# Altium schematic symbol library STTH108A.SchLib: 1 symbol
Pins are listed as number, name and electrical type; pins without a type are passive.

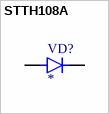
[diagram p0: symbol STTH108A]

## STTH108A
designator VD?
Diode Standard 800 V 1.0A Surface Mount DO-214AC (SMA); MF: ST; MP: STTH108A; SnapEDA_Link: *; Package: DO-214AC; Value: *
footprint DIOM4325X250N
pins: A, C